# Altium footprint library AD9959BCPZ.PcbLib: 1 footprints
Each footprint in its own frame and in the unit in brackets; x right, y up, seen from the top. Pads: shape width x height; smd on the part's side, far side on the other; paste and mask are expansions set on the pad; w line width, h text height; cw(c..) or ccw(c..) is an arc to the next point about the centre after c.
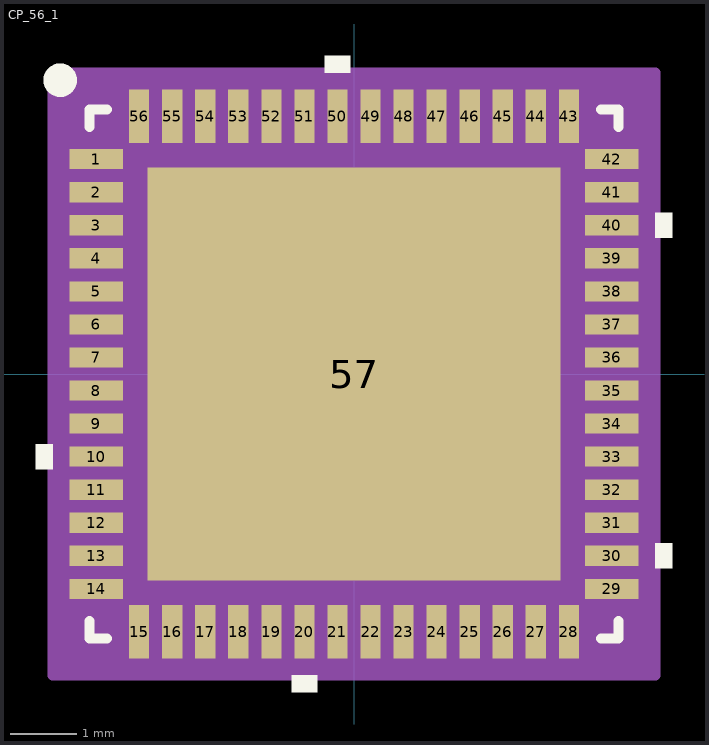
[diagram p0: the footprint, top view; thin cyan lines are the x and y axes]

## CP_56_1 [mil]
pads (57):
  rect 32x12 smd mask+5: 1(-153.5,127.95) 2(-153.5,108.27) 3(-153.5,88.58) 4(-153.5,68.9) 5(-153.5,49.21) 6(-153.5,29.53) 7(-153.5,9.84) 8(-153.5,-9.84) 9(-153.5,-29.53) 10(-153.5,-49.21) 11(-153.5,-68.9) 12(-153.5,-88.58) 13(-153.5,-108.27) 14(-153.5,-127.95) 29(153.5,-127.95) 30(153.5,-108.27) 31(153.5,-88.58) 32(153.5,-68.9) 33(153.5,-49.21) 34(153.5,-29.53) 35(153.5,-9.84) 36(153.5,9.84) 37(153.5,29.53) 38(153.5,49.21) 39(153.5,68.9) 40(153.5,88.58) 41(153.5,108.27) 42(153.5,127.95)
  rect 12x32 smd mask+5: 15(-127.95,-153.5) 16(-108.27,-153.5) 17(-88.58,-153.5) 18(-68.9,-153.5) 19(-49.21,-153.5) 20(-29.53,-153.5) 21(-9.84,-153.5) 22(9.84,-153.5) 23(29.53,-153.5) 24(49.21,-153.5) 25(68.9,-153.5) 26(88.58,-153.5) 27(108.27,-153.5) 28(127.95,-153.5) 43(127.95,153.5) 44(108.27,153.5) 45(88.58,153.5) 46(68.9,153.5) 47(49.21,153.5) 48(29.53,153.5) 49(9.84,153.5) 50(-9.84,153.5) 51(-29.53,153.5) 52(-49.21,153.5) 53(-68.9,153.5) 54(-88.58,153.5) 55(-108.27,153.5) 56(-127.95,153.5)
  rect 246x246 smd mask-122.5: 57(0,0)
Top Overlay:
  circle w10: c-175,175 r5
  region: -179.5,-41.71 -189.5,-41.71 -189.5,-56.71 -179.5,-56.71
  region: -22.03,-179.5 -37.03,-179.5 -37.03,-189.5 -22.03,-189.5
  region: 179.5,-100.77 189.5,-100.77 189.5,-115.77 179.5,-115.77
  region: 179.5,96.08 189.5,96.08 189.5,81.08 179.5,81.08
  region: -2.34,179.5 -17.34,179.5 -17.34,189.5 -2.34,189.5
  lines w6: -157.5,-147.05 -157.5,-157.5 -147.05,-157.5 ; -157.5,147.05 -157.5,157.5 -147.05,157.5 ; 147.05,-157.5 157.5,-157.5 157.5,-147.05 ; 147.05,157.5 157.5,157.5 157.5,147.05
Mechanical 15:
  region: 179.5,-179.5 -179.5,-179.5 -179.5,179.5 179.5,179.5
  lines w6: -179.5,-179.5 -179.5,179.5 179.5,179.5 179.5,-179.5 -179.5,-179.5
3D body: height 38.01, standoff 0, extent -159.5,-159.5 159.5,159.5